# Altium footprint library 10.PcbLib: 1 footprints
Each footprint in its own frame and in the unit in brackets; x right, y up, seen from the top. Pads: shape width x height; smd on the part's side, far side on the other; paste and mask are expansions set on the pad; w line width, h text height; cw(c..) or ccw(c..) is an arc to the next point about the centre after c.
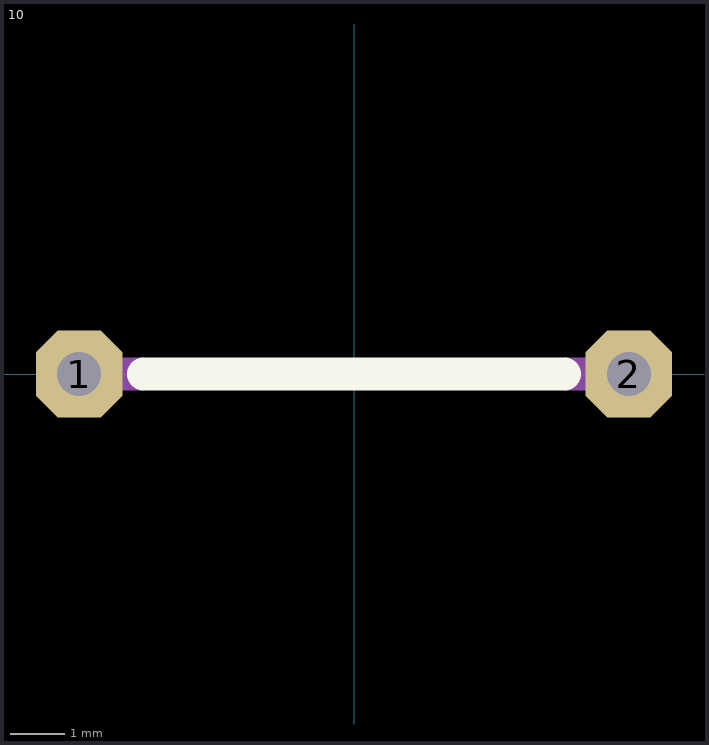
[diagram p0: the footprint, top view; thin cyan lines are the x and y axes]

## 10 [mil]
pads (2):
  oct 63x63 hole 32: 1(-200,0) 2(200,0)
Top Overlay:
  lines w24: -153,0 153,0
Mechanical 16:
  lines w24: -200,0 -155,0 ; 155,0 200,0